# Altium footprint library C_SMD_size_D.PcbLib: 1 footprints
Each footprint in its own frame and in the unit in brackets; x right, y up, seen from the top. Pads: shape width x height; smd on the part's side, far side on the other; paste and mask are expansions set on the pad; w line width, h text height; cw(c..) or ccw(c..) is an arc to the next point about the centre after c.
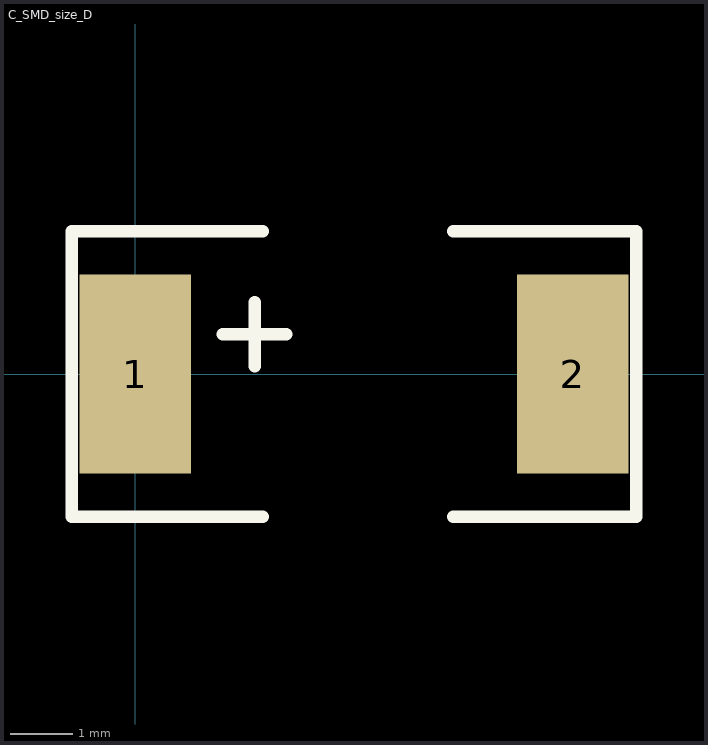
[diagram p0: the footprint, top view; thin cyan lines are the x and y axes]

## C_SMD_size_D [mil]
height 196.85
pads (2):
  rect 70x125 smd: 1(0,0) 2(275,0)
Top Overlay:
  lines w7.87: 55,25 95,25 ; 75,5 75,45 ; 80,-89.69 -40,-89.69 -40,89.69 80,89.69 ; 200,-89.69 315,-89.69 315,89.69 200,89.69
3D body: height 162, standoff 0, extent -5,-85 285,85